# Altium footprint library Package_TO_SOT_THT.PcbLib: 236 footprints (part 3 of 15)
Each footprint in its own frame and in the unit in brackets; x right, y up, seen from the top. Pads: shape width x height; smd on the part's side, far side on the other; paste and mask are expansions set on the pad; w line width, h text height; cw(c..) or ccw(c..) is an arc to the next point about the centre after c.
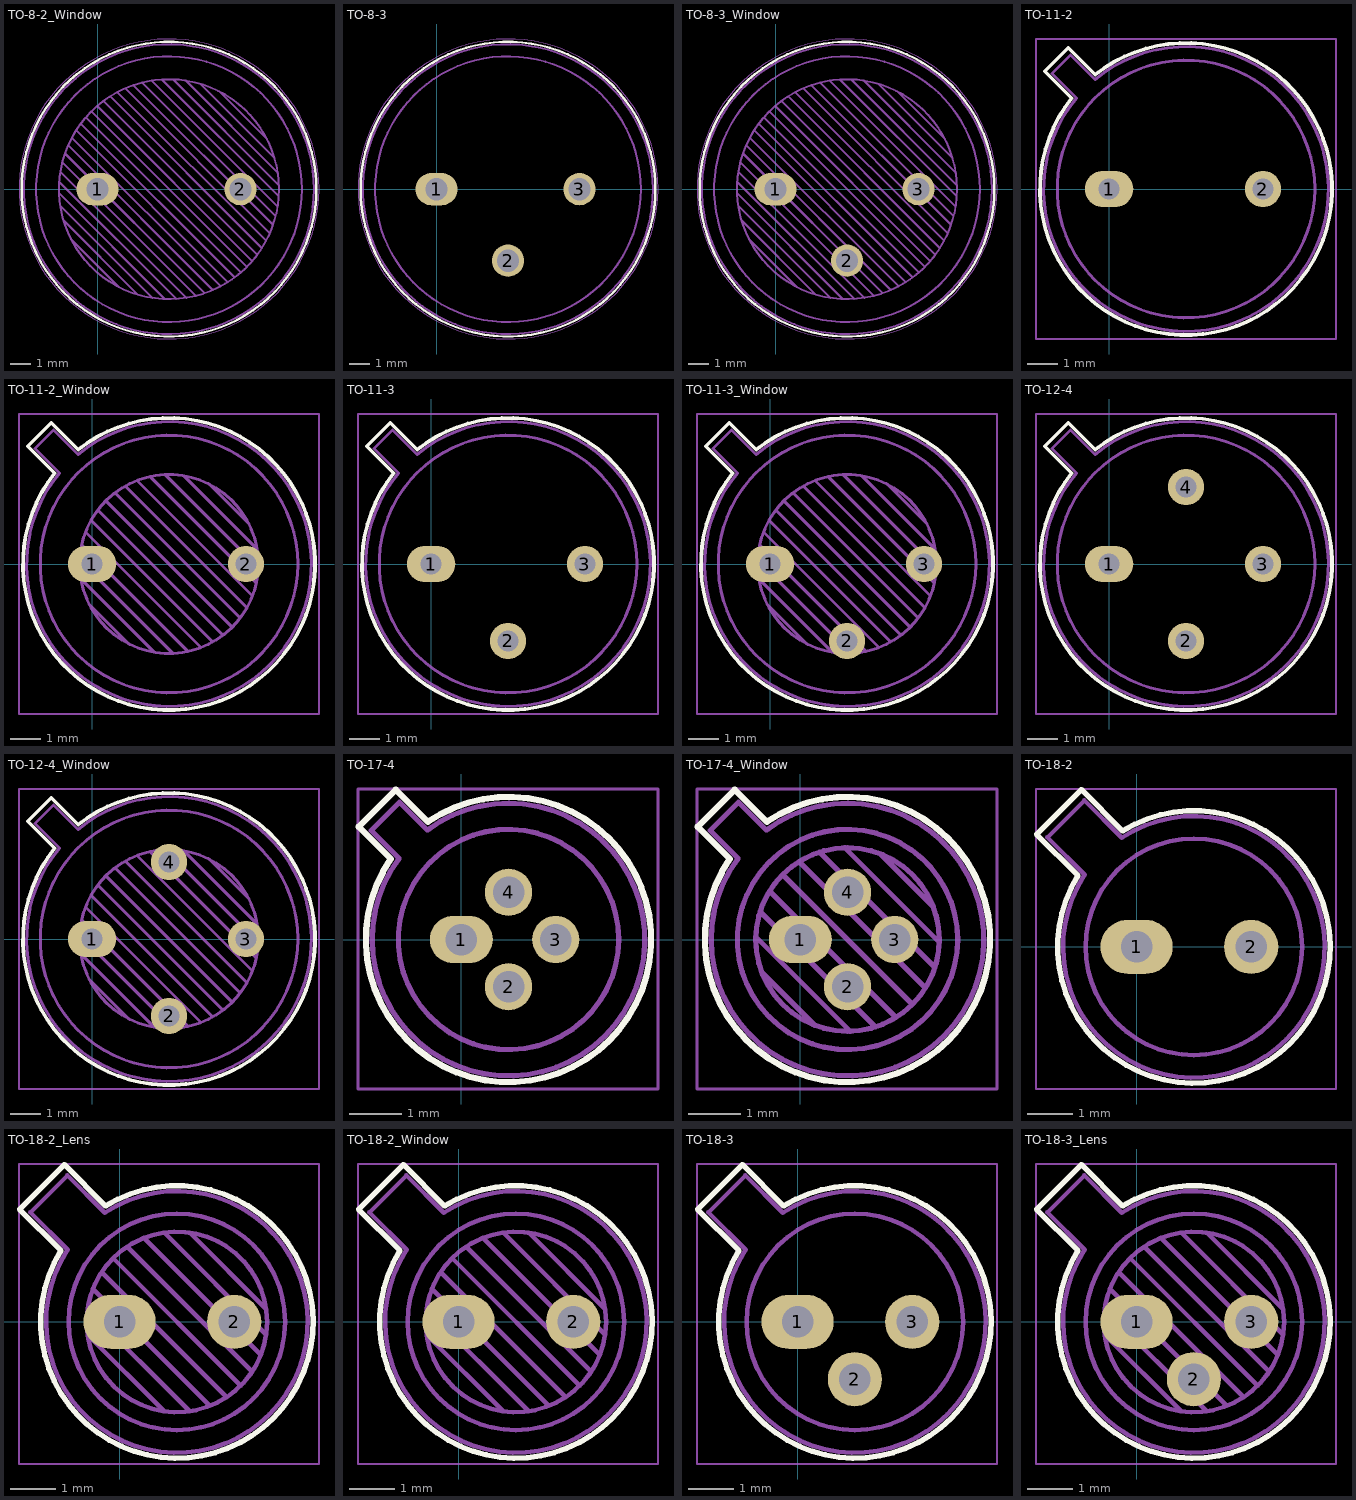
[diagram p2: the footprints below, top view; thin cyan lines are the x and y axes]

## TO-8-2_Window [mm]
pads (2):
  rrect100% 2.1x1.6 hole 1.1: 1(0,0)
  rrect100% 1.6x1.6 hole 1.1: 2(7.1,0)
F.SilkS:
  circle w0.12: c3.55,0 r7.32
F.CrtYd:
  circle w0.05: c3.55,0.01 r7.45
F.Fab:
  circle w0.1: c3.55,0 r5.461
  circle w0.1: c3.55,0 r6.6
  circle w0.1: c3.55,0 r7.2
  lines w0.1: -1.908,-0.2 3.35,-5.458 ; -1.9,0.359 3.909,-5.45 ; -1.849,-0.825 2.725,-5.399 ; -1.842,0.867 4.417,-5.392 ; -1.746,1.336 4.886,-5.296 ; -1.686,-1.553 1.997,-5.236 ; -1.616,1.772 5.322,-5.166 ; -1.458,2.18 5.73,-5.008 ; -1.307,-2.498 1.052,-4.857 ; -1.274,2.561 6.111,-4.824 ; -1.066,2.919 6.469,-4.616 ; -0.836,3.255 6.805,-4.386 ; -0.584,3.569 7.119,-4.134 ; -0.312,3.862 7.412,-3.862 ; -0.019,4.134 7.684,-3.569 ; 0.295,4.386 7.936,-3.255 ; 0.631,4.616 8.166,-2.919 ; 0.989,4.824 8.374,-2.561 ; 1.37,5.008 8.558,-2.18 ; 1.778,5.166 8.716,-1.772 ; 2.214,5.296 8.846,-1.336 ; 2.683,5.392 8.942,-0.867 ; 3.191,5.45 9,-0.359 ; 3.75,5.458 9.008,0.2 ; 4.375,5.399 8.949,0.825 ; 5.103,5.236 8.786,1.553 ; 6.048,4.857 8.407,2.498
  text "'.Designator'" at -0.497,7.48 h1

## TO-8-3 [mm]
pads (3):
  rrect100% 2.1x1.6 hole 1.1: 1(0,0)
  rrect100% 1.6x1.6 hole 1.1: 2(3.55,-3.55) 3(7.1,0)
F.SilkS:
  circle w0.12: c3.55,0 r7.32
F.CrtYd:
  circle w0.05: c3.55,0.01 r7.45
F.Fab:
  circle w0.1: c3.55,0 r7.2
  circle w0.1: c3.55,0 r6.6
  text "'.Designator'" at -0.497,7.48 h1

## TO-8-3_Window [mm]
pads (3):
  rrect100% 2.1x1.6 hole 1.1: 1(0,0)
  rrect100% 1.6x1.6 hole 1.1: 2(3.55,-3.55) 3(7.1,0)
F.SilkS:
  circle w0.12: c3.55,0 r7.32
F.CrtYd:
  circle w0.05: c3.55,0.01 r7.45
F.Fab:
  circle w0.1: c3.55,0 r5.461
  circle w0.1: c3.55,0 r6.6
  circle w0.1: c3.55,0 r7.2
  lines w0.1: -1.908,-0.2 3.35,-5.458 ; -1.9,0.359 3.909,-5.45 ; -1.849,-0.825 2.725,-5.399 ; -1.842,0.867 4.417,-5.392 ; -1.746,1.336 4.886,-5.296 ; -1.686,-1.553 1.997,-5.236 ; -1.616,1.772 5.322,-5.166 ; -1.458,2.18 5.73,-5.008 ; -1.307,-2.498 1.052,-4.857 ; -1.274,2.561 6.111,-4.824 ; -1.066,2.919 6.469,-4.616 ; -0.836,3.255 6.805,-4.386 ; -0.584,3.569 7.119,-4.134 ; -0.312,3.862 7.412,-3.862 ; -0.019,4.134 7.684,-3.569 ; 0.295,4.386 7.936,-3.255 ; 0.631,4.616 8.166,-2.919 ; 0.989,4.824 8.374,-2.561 ; 1.37,5.008 8.558,-2.18 ; 1.778,5.166 8.716,-1.772 ; 2.214,5.296 8.846,-1.336 ; 2.683,5.392 8.942,-0.867 ; 3.191,5.45 9,-0.359 ; 3.75,5.458 9.008,0.2 ; 4.375,5.399 8.949,0.825 ; 5.103,5.236 8.786,1.553 ; 6.048,4.857 8.407,2.498
  text "'.Designator'" at -0.497,7.48 h1

## TO-11-2 [mm]
pads (2):
  rrect100% 1.6x1.2 hole 0.7: 1(0,0)
  rrect100% 1.2x1.2 hole 0.7: 2(5.08,0)
F.SilkS:
  lines w0.12: -2.126,3.888 -1.348,4.666 -0.457,3.775 cw(c2.54,0) -1.235,2.997 -2.126,3.888
F.CrtYd:
  lines w0.05: -2.41,-4.95 -2.41,4.95 7.49,4.95 7.49,-4.95 -2.41,-4.95
F.Fab:
  circle w0.1: c2.54,0 r4.25
  lines w0.1: -1.88,3.812 -1.272,4.42 -0.465,3.614 cw(c2.54,0) -1.074,3.005 -1.88,3.812
  text "'.Designator'" at -1.507,4.98 h1

## TO-11-2_Window [mm]
pads (2):
  rrect100% 1.6x1.2 hole 0.7: 1(0,0)
  rrect100% 1.2x1.2 hole 0.7: 2(5.08,0)
F.SilkS:
  lines w0.12: -2.126,3.888 -1.348,4.666 -0.457,3.775 cw(c2.54,0) -1.235,2.997 -2.126,3.888
F.CrtYd:
  lines w0.05: -2.41,-4.95 7.49,-4.95 7.49,4.95 -2.41,4.95 -2.41,-4.95
F.Fab:
  circle w0.1: c2.54,0 r2.95
  circle w0.1: c2.54,0 r4.25
  lines w0.1: -0.408,0.12 2.66,-2.948 ; -0.371,-0.485 2.055,-2.911 ; -0.344,0.622 3.162,-2.884 ; -0.215,1.058 3.598,-2.755 ; -0.097,-1.324 1.216,-2.637 ; -0.034,1.443 3.983,-2.574 ; 0.19,1.784 4.324,-2.35 ; 0.454,2.086 4.626,-2.086 ; 0.756,2.35 4.89,-1.784 ; 1.097,2.574 5.114,-1.443 ; 1.482,2.755 5.295,-1.058 ; 1.918,2.884 5.424,-0.622 ; 2.42,2.948 5.488,-0.12 ; 3.025,2.911 5.451,0.485 ; 3.864,2.637 5.177,1.324 ; -1.88,3.812 -1.074,3.005 ccw(c2.54,0) -0.465,3.614 -1.272,4.42 -1.88,3.812
  text "'.Designator'" at -1.507,4.98 h1

## TO-11-3 [mm]
pads (3):
  rrect100% 1.6x1.2 hole 0.7: 1(0,0)
  rrect100% 1.2x1.2 hole 0.7: 2(2.54,-2.54) 3(5.08,0)
F.SilkS:
  lines w0.12: -2.126,3.888 -1.348,4.666 -0.457,3.775 cw(c2.54,0) -1.235,2.997 -2.126,3.888
F.CrtYd:
  lines w0.05: -2.41,-4.95 -2.41,4.95 7.49,4.95 7.49,-4.95 -2.41,-4.95
F.Fab:
  circle w0.1: c2.54,0 r4.25
  lines w0.1: -1.88,3.812 -1.272,4.42 -0.465,3.614 cw(c2.54,0) -1.074,3.005 -1.88,3.812
  text "'.Designator'" at -1.507,4.98 h1

## TO-11-3_Window [mm]
pads (3):
  rrect100% 1.6x1.2 hole 0.7: 1(0,0)
  rrect100% 1.2x1.2 hole 0.7: 2(2.54,-2.54) 3(5.08,0)
F.SilkS:
  lines w0.12: -2.126,3.888 -1.235,2.997 ccw(c2.54,0) -0.457,3.775 -1.348,4.666 -2.126,3.888
F.CrtYd:
  lines w0.05: -2.41,-4.95 -2.41,4.95 7.49,4.95 7.49,-4.95 -2.41,-4.95
F.Fab:
  circle w0.1: c2.54,0 r4.25
  circle w0.1: c2.54,0 r2.95
  lines w0.1: -0.408,0.12 2.66,-2.948 ; -0.371,-0.485 2.055,-2.911 ; -0.344,0.622 3.162,-2.884 ; -0.215,1.058 3.598,-2.755 ; -0.097,-1.324 1.216,-2.637 ; -0.034,1.443 3.983,-2.574 ; 0.19,1.784 4.324,-2.35 ; 0.454,2.086 4.626,-2.086 ; 0.756,2.35 4.89,-1.784 ; 1.097,2.574 5.114,-1.443 ; 1.482,2.755 5.295,-1.058 ; 1.918,2.884 5.424,-0.622 ; 2.42,2.948 5.488,-0.12 ; 3.025,2.911 5.451,0.485 ; 3.864,2.637 5.177,1.324 ; -1.88,3.812 -1.074,3.005 ccw(c2.54,0) -0.465,3.614 -1.272,4.42 -1.88,3.812
  text "'.Designator'" at -1.507,4.98 h1

## TO-12-4 [mm]
pads (4):
  rrect100% 1.6x1.2 hole 0.7: 1(0,0)
  rrect100% 1.2x1.2 hole 0.7: 2(2.54,-2.54) 3(5.08,0) 4(2.54,2.54)
F.SilkS:
  lines w0.12: -2.126,3.888 -1.348,4.666 -0.457,3.775 cw(c2.54,0) -1.235,2.997 -2.126,3.888
F.CrtYd:
  lines w0.05: -2.41,-4.95 7.49,-4.95 7.49,4.95 -2.41,4.95 -2.41,-4.95
F.Fab:
  circle w0.1: c2.54,0 r4.25
  lines w0.1: -1.88,3.812 -1.272,4.42 -0.465,3.614 cw(c2.54,0) -1.074,3.005 -1.88,3.812
  text "'.Designator'" at -1.507,4.98 h1

## TO-12-4_Window [mm]
pads (4):
  rrect100% 1.6x1.2 hole 0.7: 1(0,0)
  rrect100% 1.2x1.2 hole 0.7: 2(2.54,-2.54) 3(5.08,0) 4(2.54,2.54)
F.SilkS:
  lines w0.12: -2.126,3.888 -1.348,4.666 -0.457,3.775 cw(c2.54,0) -1.235,2.997 -2.126,3.888
F.CrtYd:
  lines w0.05: -2.41,-4.95 -2.41,4.95 7.49,4.95 7.49,-4.95 -2.41,-4.95
F.Fab:
  circle w0.1: c2.54,0 r2.95
  circle w0.1: c2.54,0 r4.25
  lines w0.1: -0.408,0.12 2.66,-2.948 ; -0.371,-0.485 2.055,-2.911 ; -0.344,0.622 3.162,-2.884 ; -0.215,1.058 3.598,-2.755 ; -0.097,-1.324 1.216,-2.637 ; -0.034,1.443 3.983,-2.574 ; 0.19,1.784 4.324,-2.35 ; 0.454,2.086 4.626,-2.086 ; 0.756,2.35 4.89,-1.784 ; 1.097,2.574 5.114,-1.443 ; 1.482,2.755 5.295,-1.058 ; 1.918,2.884 5.424,-0.622 ; 2.42,2.948 5.488,-0.12 ; 3.025,2.911 5.451,0.485 ; 3.864,2.637 5.177,1.324 ; -1.88,3.812 -1.074,3.005 ccw(c2.54,0) -0.465,3.614 -1.272,4.42 -1.88,3.812
  text "'.Designator'" at -1.507,4.98 h1

## TO-17-4 [mm]
pads (4):
  rrect100% 1.2x0.9 hole 0.6: 1(0,0)
  rrect100% 0.9x0.9 hole 0.6: 2(0.9,-0.9) 3(1.8,0) 4(0.9,0.9)
F.SilkS:
  lines w0.12: -1.345,1.536 ccw(c0.9,0) -0.637,2.244 -1.252,2.859 -1.959,2.152 -1.344,1.537
F.CrtYd:
  lines w0.05: -1.97,-2.85 -1.97,2.87 3.75,2.87 3.75,-2.85 -1.97,-2.85
F.Fab:
  circle w0.1: c0.9,0 r2.1
  lines w0.1: -1.187,1.55 -1.718,2.08 -1.18,2.618 -0.65,2.087 cw(c0.9,0) -1.187,1.55
  text "'.Designator'" at -3.147,2.88 h1

## TO-17-4_Window [mm]
pads (4):
  rrect100% 1.2x0.9 hole 0.6: 1(0,0)
  rrect100% 0.9x0.9 hole 0.6: 2(0.9,-0.9) 3(1.8,0) 4(0.9,0.9)
F.SilkS:
  lines w0.12: -1.345,1.536 ccw(c0.9,0) -0.637,2.244 -1.252,2.859 -1.959,2.152 -1.344,1.537
F.CrtYd:
  lines w0.05: -1.97,-2.85 -1.97,2.87 3.75,2.87 3.75,-2.85 -1.97,-2.85
F.Fab:
  circle w0.1: c0.9,0 r1.75
  circle w0.1: c0.9,0 r2.1
  lines w0.1: -1.187,1.55 -1.718,2.08 -1.18,2.618 -0.65,2.087 cw(c0.9,0) -1.187,1.55 ; -0.85,0.053 0.953,-1.75 ; -0.767,0.535 1.435,-1.667 ; -0.733,-0.631 0.269,-1.633 ; -0.588,0.922 1.822,-1.488 ; -0.338,1.238 2.138,-1.238 ; -0.022,1.488 2.388,-0.922 ; 0.365,1.667 2.567,-0.535 ; 0.847,1.75 2.65,-0.053 ; 1.531,1.633 2.533,0.631
  text "'.Designator'" at -3.147,2.88 h1

## TO-18-2 [mm]
pads (2):
  rrect100% 1.6x1.2 hole 0.7: 1(0,0)
  rrect100% 1.2x1.2 hole 0.7: 2(2.54,0)
F.SilkS:
  lines w0.12: -2.214,2.494 -1.224,3.484 -0.312,2.572 cw(c1.27,0) -1.302,1.583 -2.214,2.494
F.CrtYd:
  lines w0.05: -2.23,-3.15 4.42,-3.15 4.42,3.5 -2.23,3.5 -2.23,-3.15
F.Fab:
  circle w0.1: c1.27,0 r2.4
  lines w0.1: -1.15,1.598 ccw(c1.27,0) -0.329,2.419 -1.156,3.247 -1.977,2.426 -1.149,1.599
  text "'.Designator'" at -2.777,3.18 h1

## TO-18-2_Lens [mm]
pads (2):
  rrect100% 1.6x1.2 hole 0.7: 1(0,0)
  rrect100% 1.2x1.2 hole 0.7: 2(2.54,0)
F.SilkS:
  lines w0.12: -2.214,2.494 -1.302,1.582 ccw(c1.27,0) -0.312,2.572 -1.224,3.484 -2.214,2.494
F.CrtYd:
  lines w0.05: -2.23,-3.15 -2.23,3.5 4.42,3.5 4.42,-3.15 -2.23,-3.15
F.Fab:
  circle w0.1: c1.27,0 r2
  circle w0.1: c1.27,0 r2.4
  lines w0.1: -1.15,1.598 ccw(c1.27,0) -0.329,2.419 -1.156,3.247 -1.977,2.426 -1.149,1.599 ; -0.71,-0.283 0.987,-1.98 ; -0.71,0.283 1.553,-1.98 ; -0.592,0.731 2.001,-1.862 ; -0.399,1.103 2.373,-1.669 ; -0.145,1.415 2.685,-1.415 ; 0.167,1.669 2.939,-1.103 ; 0.539,1.862 3.132,-0.731 ; 0.987,1.98 3.25,-0.283 ; 1.553,1.98 3.25,0.283
  text "'.Designator'" at -2.777,3.18 h1

## TO-18-2_Window [mm]
pads (2):
  rrect100% 1.6x1.2 hole 0.7: 1(0,0)
  rrect100% 1.2x1.2 hole 0.7: 2(2.54,0)
F.SilkS:
  lines w0.12: -2.214,2.494 -1.224,3.484 -0.312,2.572 cw(c1.27,0) -1.302,1.583 -2.214,2.494
F.CrtYd:
  lines w0.05: -2.23,-3.15 4.42,-3.15 4.42,3.5 -2.23,3.5 -2.23,-3.15
F.Fab:
  circle w0.1: c1.27,0 r2.4
  circle w0.1: c1.27,0 r2
  lines w0.1: -1.15,1.598 ccw(c1.27,0) -0.329,2.419 -1.156,3.247 -1.977,2.426 -1.149,1.599 ; -0.71,-0.283 0.987,-1.98 ; -0.71,0.283 1.553,-1.98 ; -0.592,0.731 2.001,-1.862 ; -0.399,1.103 2.373,-1.669 ; -0.145,1.415 2.685,-1.415 ; 0.167,1.669 2.939,-1.103 ; 0.539,1.862 3.132,-0.731 ; 0.987,1.98 3.25,-0.283 ; 1.553,1.98 3.25,0.283
  text "'.Designator'" at -2.777,3.18 h1

## TO-18-3 [mm]
pads (3):
  rrect100% 1.6x1.2 hole 0.7: 1(0,0)
  rrect100% 1.2x1.2 hole 0.7: 2(1.27,-1.27) 3(2.54,0)
F.SilkS:
  lines w0.12: -2.214,2.494 -1.224,3.484 -0.312,2.572 cw(c1.27,0) -1.302,1.583 -2.214,2.494
F.CrtYd:
  lines w0.05: -2.23,-3.15 -2.23,3.5 4.42,3.5 4.42,-3.15 -2.23,-3.15
F.Fab:
  circle w0.1: c1.27,0 r2.4
  lines w0.1: -1.15,1.598 ccw(c1.27,0) -0.329,2.419 -1.156,3.247 -1.977,2.426 -1.149,1.599
  text "'.Designator'" at -2.777,3.18 h1

## TO-18-3_Lens [mm]
pads (3):
  rrect100% 1.6x1.2 hole 0.7: 1(0,0)
  rrect100% 1.2x1.2 hole 0.7: 2(1.27,-1.27) 3(2.54,0)
F.SilkS:
  lines w0.12: -2.214,2.494 -1.302,1.582 ccw(c1.27,0) -0.312,2.572 -1.224,3.484 -2.214,2.494
F.CrtYd:
  lines w0.05: -2.23,-3.15 -2.23,3.5 4.42,3.5 4.42,-3.15 -2.23,-3.15
F.Fab:
  circle w0.1: c1.27,0 r2.4
  circle w0.1: c1.27,0 r2
  lines w0.1: -1.15,1.598 ccw(c1.27,0) -0.329,2.419 -1.156,3.247 -1.977,2.426 -1.149,1.599 ; -0.71,-0.283 0.987,-1.98 ; -0.71,0.283 1.553,-1.98 ; -0.592,0.731 2.001,-1.862 ; -0.399,1.103 2.373,-1.669 ; -0.145,1.415 2.685,-1.415 ; 0.167,1.669 2.939,-1.103 ; 0.539,1.862 3.132,-0.731 ; 0.987,1.98 3.25,-0.283 ; 1.553,1.98 3.25,0.283
  text "'.Designator'" at -2.777,3.18 h1